# EAGLE library part 1.27 (library KW-104AL)
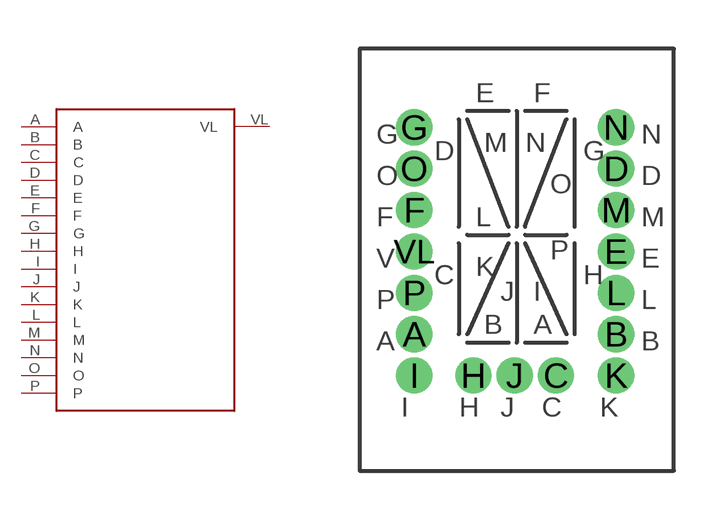
[diagram p0: symbol with the pads of 127; footprint 127]

Designator prefix -

## 1.27KW-104AL  [127]
A  A
B  B
C  C
D  D
E  E
F  F
G  G
H  H
I  I
J  J
K  K
L  L
M  M
N  N
O  O
P  P
VL  VL

## Footprint 127 (pad centres in mm)
drill 0.6 pad 1.016: A -3.15,-1.778; B 3.048,-1.778; C 1.204,-3.048; D 3.048,3.302; E 3.048,0.762; F -3.15,2.032; G -3.15,4.572; H -1.336,-3.048; I -3.15,-3.048; J -0.066,-3.048; K 3.048,-3.048; L 3.048,-0.508; M 3.048,2.032; N 3.048,4.572; O -3.15,3.302; P -3.15,-0.508; VL -3.15,0.762